# Altium footprint library Blueberry_digital.PcbLib: 39 footprints (part 3 of 3)
Each footprint in its own frame and in the unit in brackets; x right, y up, seen from the top. Pads: shape width x height; smd on the part's side, far side on the other; paste and mask are expansions set on the pad; w line width, h text height; cw(c..) or ccw(c..) is an arc to the next point about the centre after c.
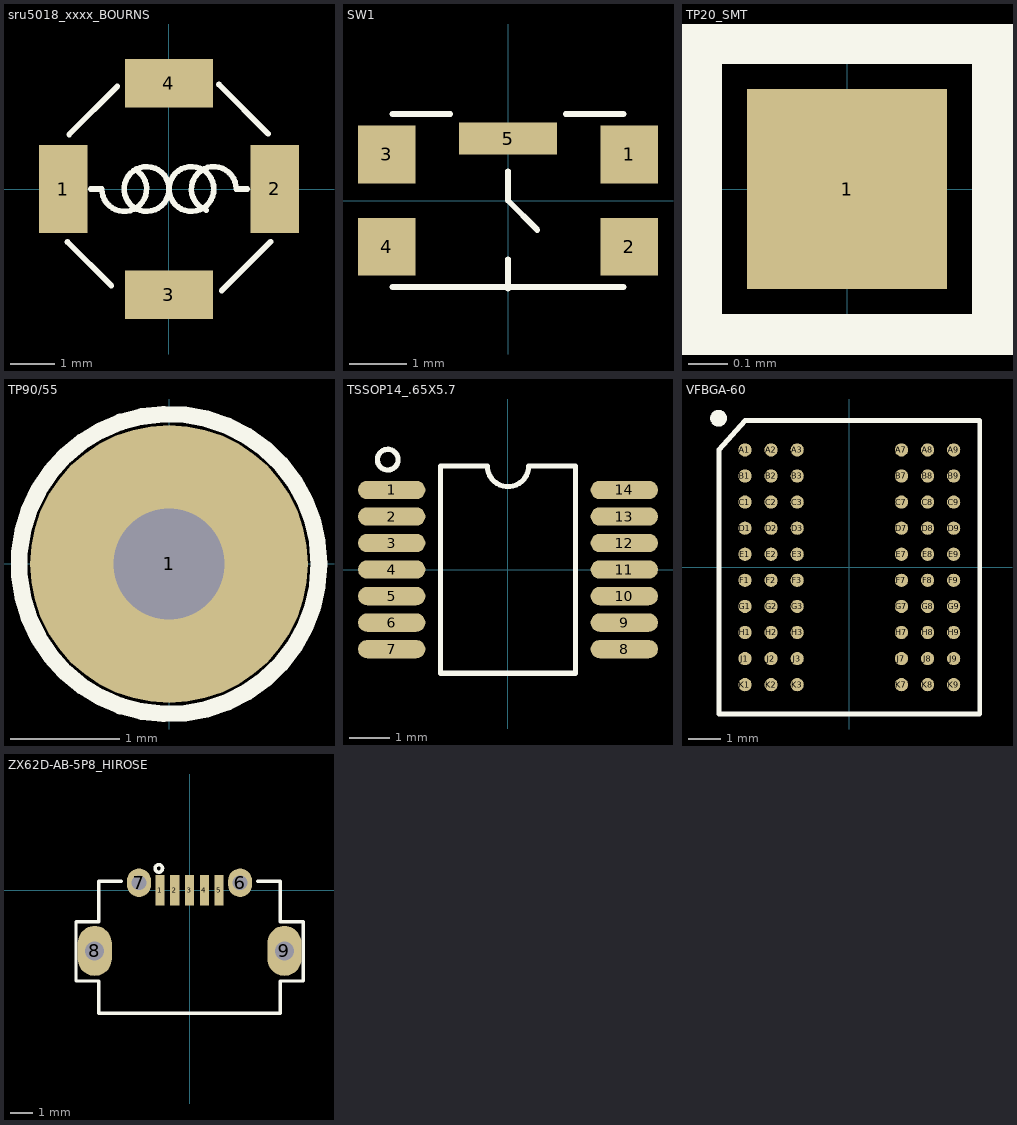
[diagram p2: the footprints below, top view; thin cyan lines are the x and y axes]

## sru5018_xxxx_BOURNS [mm]
pads (4):
  rect 1.1x2 smd: 1(-2.4,0) 2(2.4,0)
  rect 2x1.1 smd: 3(0,-2.4) 4(0,2.4)
Top Overlay:
  circle w0.127: c0.508,0 r0.508
  circle w0.127: c-0.508,0 r0.508
  lines w0.127: -2.3,-1.2 -1.31,-2.19 ; -2.265,1.235 -1.17,2.33 ; -1.778,0 -1.524,0 ccw(c-1.016,0) -0.762,0.44 ; 0.842,-0.477 cw(c1.016,0) 1.524,0 1.778,0 ; 1.132,2.368 2.249,1.251 ; 1.196,-2.304 2.306,-1.194 ; 2.306,-1.194 2.306,-1.194

## SW1 [mm]
pads (5):
  rect 1x1 smd: 1(2.1,0.8) 2(2.1,-0.8) 3(-2.1,0.8) 4(-2.1,-0.8)
  rect 1.7x0.55 smd: 5(0,1.075)
Top Overlay:
  lines w0.102: -2,-1.5 2,-1.5 ; -2,1.5 -1,1.5 ; 0,-1.524 0,-1.016 ; 0,0.508 0,0 0.508,-0.508 ; 1,1.5 2,1.5

## TP20_SMT [mil]
pads (1):
  rect 20x20 smd: 1(0,0)
Top Overlay:
  lines w5: -15,-15 15,-15 15,15 -15,15 -15,0 -15,-15

## TP90/55 [mil]
pads (1):
  round 100 / inner round 60 / far side round 100 hole 40: 1(0,0)
Top Overlay:
  circle w6: c0,0 r54

## TSSOP14_.65X5.7 [mil]
pads (14):
  oval 65x17.7 smd mask+2: 1(-112.2,76.77) 2(-112.2,51.18) 3(-112.2,25.59) 4(-112.2,0) 5(-112.2,-25.59) 6(-112.2,-51.18) 7(-112.2,-76.77) 8(112.2,-76.77) 9(112.2,-51.18) 10(112.2,-25.59) 11(112.2,0) 12(112.2,25.59) 13(112.2,51.18) 14(112.2,76.77)
Top Overlay:
  circle w5: c-116,106 r10
  lines w5: -65,-100 65,-100 65,100 20,100 cw(c0,100) -20,100 -65,100 -65,-100

## VFBGA-60 [mm]
pads (60):
  round 0.406 smd: A1(-3.2,3.6) A2(-2.4,3.6) A3(-1.6,3.6) A7(1.6,3.6) A8(2.4,3.6) A9(3.2,3.6) B1(-3.2,2.8) B2(-2.4,2.8) B3(-1.6,2.8) B7(1.6,2.8) B8(2.4,2.8) B9(3.2,2.8) C1(-3.2,2) C2(-2.4,2) C3(-1.6,2) C7(1.6,2) C8(2.4,2) C9(3.2,2) D1(-3.2,1.2) D2(-2.4,1.2) D3(-1.6,1.2) D7(1.6,1.2) D8(2.4,1.2) D9(3.2,1.2) E1(-3.2,0.4) E2(-2.4,0.4) E3(-1.6,0.4) E7(1.6,0.4) E8(2.4,0.4) E9(3.2,0.4) F1(-3.2,-0.4) F2(-2.4,-0.4) F3(-1.6,-0.4) F7(1.6,-0.4) F8(2.4,-0.4) F9(3.2,-0.4) G1(-3.2,-1.2) G2(-2.4,-1.2) G3(-1.6,-1.2) G7(1.6,-1.2) G8(2.4,-1.2) G9(3.2,-1.2) H1(-3.2,-2) H2(-2.4,-2) H3(-1.6,-2) H7(1.6,-2) H8(2.4,-2) H9(3.2,-2) J1(-3.2,-2.8) J2(-2.4,-2.8) J3(-1.6,-2.8) J7(1.6,-2.8) J8(2.4,-2.8) J9(3.2,-2.8) K1(-3.2,-3.6) K2(-2.4,-3.6) K3(-1.6,-3.6) K7(1.6,-3.6) K8(2.4,-3.6) K9(3.2,-3.6)
Top Overlay:
  circle w0.254: c-4.013,4.572 r0.13
  lines w0.152: -4,3.6 -3.2,4.496 ; -4,3.607 -4,-4.5 4,-4.5 4,4.5 -3.2,4.5

## ZX62D-AB-5P8_HIROSE [mm]
pads (9):
  rect 0.4x1.35 smd: 1(-1.3,0) 2(-0.65,0) 3(0,0) 4(0.65,0) 5(1.3,0)
  oval 1.05x1.25 hole 0.648: 6(2.225,0.325) 7(-2.225,0.325)
  oval 1.5x2.2 hole 0.838: 8(-4.175,-2.675) 9(4.175,-2.675)
Top Overlay:
  circle w0.152: c-1.355,0.957 r0.165
  lines w0.152: -3,0.4 -4,0.4 -4,-1.4 -5,-1.4 -5,-4 -4,-4 -4,-5.425 4,-5.425 4,-4 5,-4 5,-1.4 4,-1.4 4,0.4 3,0.4
Drill Guide:
  lines w0.05: -7.509,-4.125 5.699,-4.125
  text "pcb edge" at 13.945,-3.886 h1.14
Mechanical 14:
  text "DigiKey# H11494CT-ND" at 8.868,8.644 h1.14
  text "Part# ZX62D-AB-5P8" at 8.741,6.612 h1.14
  text "CONN RCPT MCR USB AB SMD TH SHLL" at 8.741,4.707 h1.14
  text "Hirose" at 8.614,2.929 h1.14
Drill Drawing:
  text "33 drills = 33 x 60 mil slots, 2 plcs" at 54.388,-59.37 h2.54
  text "25.5 drills = 25.5 x 34mil slots, 2 plcs" at 53.753,-54.925 h2.54